# EAGLE library part 20021121-00010C4LF (library Remote)
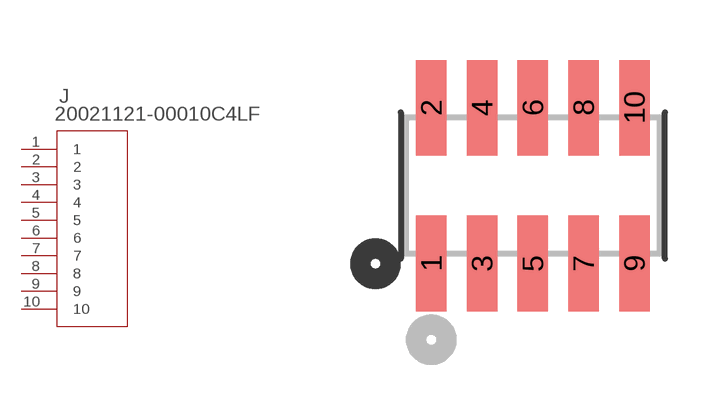
[diagram p0: symbol with the pads of CONN_00010C4LF_AMP; footprint CONN_00010C4LF_AMP]

Designator prefix J

## 20021121-00010C4LF (BUILT_BY: EMA_Matt; COPYRIGHT: Copyright (C) 2018 Accelerated Designs. All rights reserved; MANUFACTURER_PART_NUMBER: 20021121-00010C4LF; SOURCELIBRARY: Amphenol_2019-10-30; VENDOR: Amphenol)  [CONN_00010C4LF_AMP]
1  1  pas
2  2  pas
3  3  pas
4  4  pas
5  5  pas
6  6  pas
7  7  pas
8  8  pas
9  9  pas
10  10  pas

## Footprint CONN_00010C4LF_AMP (pad centres in mm)
smd 0.762 x 2.388: 1 -2.54,-1.95; 2 -2.54,1.95; 3 -1.27,-1.95; 4 -1.27,1.95; 5 0,-1.95; 6 0,1.95; 7 1.27,-1.95; 8 1.27,1.95; 9 2.54,-1.95; 10 2.54,1.95